# Altium footprint library IND_TayoYuden.PcbLib: 2 footprints
Each footprint in its own frame and in the unit in brackets; x right, y up, seen from the top. Pads: shape width x height; smd on the part's side, far side on the other; paste and mask are expansions set on the pad; w line width, h text height; cw(c..) or ccw(c..) is an arc to the next point about the centre after c.
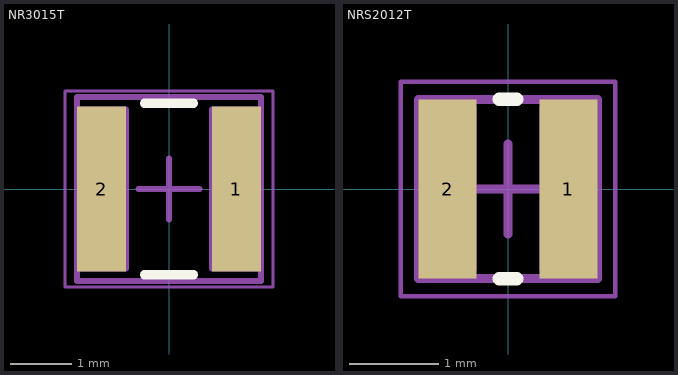
[diagram p0: the footprints below, top view; thin cyan lines are the x and y axes]

## NR3015T [mm]
pads (2):
  rect 0.8x2.7 smd: 1(1.1,0) 2(-1.1,0)
Top Overlay:
  lines w0.15: -0.4,-1.4 0.4,-1.4 ; -0.4,1.4 0.4,1.4
Mechanical 14:
  lines w0.1: -1.5,-1.5 1.5,-1.5 1.5,1.5 -1.5,1.5 -1.5,-1.5 ; -1.5,-1.3 -1.5,1.3 -0.7,1.3 -0.7,-1.3 -1.5,-1.3 ; 0.7,-1.3 1.5,-1.3 1.5,1.3 0.7,1.3 0.7,-1.3
  text ".Designator" at -0.5,-0.3 h0.6
Mechanical 15:
  lines w0.05: -1.7,-1.6 -1.7,1.6 1.7,1.6 1.7,-1.6 -1.7,-1.6
  lines w0.1: -0.5,0 0.5,0 ; 0,-0.5 0,0.5
3D body "TayoYuden-nr3015.step": height 1.47, standoff -0.02, extent -1.5,-1.5 1.5,1.5

## NRS2012T [mm]
pads (2):
  rect 0.65x2 smd: 1(0.675,0) 2(-0.675,0)
Top Overlay:
  lines w0.15: -0.1,-1 0.1,-1 ; -0.1,1 0.1,1
Mechanical 14:
  lines w0.1: -1,-1 1,-1 1,0.9 0.4,0.9 0.4,-0.9 1,-0.9 1,1 -1,1 -1,-1 ; -1,-0.9 -0.4,-0.9 -0.4,0.9 -1,0.9 -1,-0.9
  text ".Designator" at -0.2,-0.3 h0.4
Mechanical 15:
  lines w0.05: -1.2,-1.2 1.2,-1.2 1.2,1.2 -1.2,1.2 -1.2,-1.2
  lines w0.1: -0.5,0 0.5,0 ; 0,-0.5 0,0.5
3D body: height 1.2, standoff 0.05, extent -0.9,-0.9 0.9,0.9